# Altium footprint library wheelchair.PcbLib: 11 footprints
Each footprint in its own frame and in the unit in brackets; x right, y up, seen from the top. Pads: shape width x height; smd on the part's side, far side on the other; paste and mask are expansions set on the pad; w line width, h text height; cw(c..) or ccw(c..) is an arc to the next point about the centre after c.
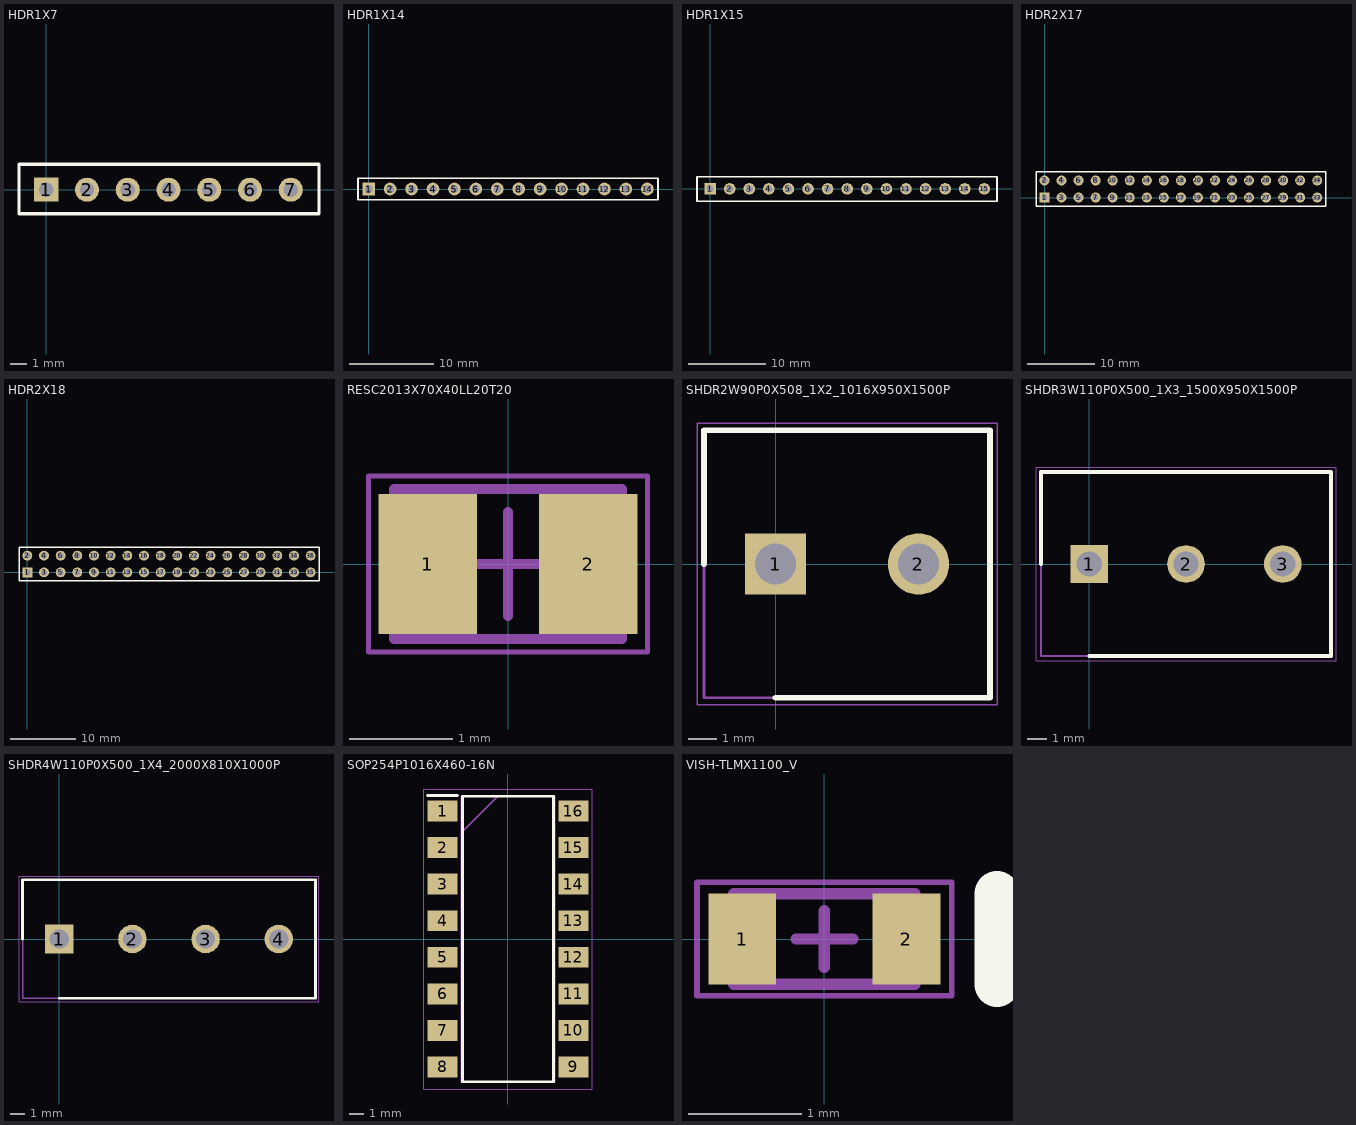
[diagram p0: the footprints below, top view; thin cyan lines are the x and y axes]

## HDR1X7 [mm]
pads (7):
  rect 1.5x1.5 hole 0.9: 1(0,0)
  round 1.5 hole 0.9: 2(2.54,0) 3(5.08,0) 4(7.62,0) 5(10.16,0) 6(12.7,0) 7(15.24,0)
Top Overlay:
  lines w0.2: -1.7,-1.5 -1.7,1.585 17,1.585 17,-1.5 -1.7,-1.5
3D body "female_header_a-bl254-eg-g07d.stp": height 8.51, standoff -3.19, extent -1.395,-1.2 16.635,1.3

## HDR1X14 [mm]
pads (14):
  rect 1.5x1.5 hole 0.9: 1(0,0)
  round 1.5 hole 0.9: 2(2.54,0) 3(5.08,0) 4(7.62,0) 5(10.16,0) 6(12.7,0) 7(15.24,0) 8(17.78,0) 9(20.32,0) 10(22.86,0) 11(25.4,0) 12(27.94,0) 13(30.48,0) 14(33.02,0)
Top Overlay:
  lines w0.2: -1.27,-1.27 34.29,-1.27 34.29,1.27 0.635,1.27 -1.27,1.27 -1.27,-1.27

## HDR1X15 [mm]
pads (15):
  rect 1.5x1.5 hole 0.9: 1(0,0)
  round 1.5 hole 0.9: 2(2.54,0) 3(5.08,0) 4(7.62,0) 5(10.16,0) 6(12.7,0) 7(15.24,0) 8(17.78,0) 9(20.32,0) 10(22.86,0) 11(25.4,0) 12(27.94,0) 13(30.48,0) 14(33.02,0) 15(35.56,0)
Top Overlay:
  lines w0.2: -1.7,-1.615 37.2,-1.615 37.2,1.585 -1.7,1.585 -1.7,-1.615

## HDR2X17 [mm]
pads (34):
  rect 1.5x1.5 hole 0.9: 1(0,0)
  round 1.5 hole 0.9: 2(0,2.54) 3(2.54,0) 4(2.54,2.54) 5(5.08,0) 6(5.08,2.54) 7(7.62,0) 8(7.62,2.54) 9(10.16,0) 10(10.16,2.54) 11(12.7,0) 12(12.7,2.54) 13(15.24,0) 14(15.24,2.54) 15(17.78,0) 16(17.78,2.54) 17(20.32,0) 18(20.32,2.54) 19(22.86,0) 20(22.86,2.54) 21(25.4,0) 22(25.4,2.54) 23(27.94,0) 24(27.94,2.54) 25(30.48,0) 26(30.48,2.54) 27(33.02,0) 28(33.02,2.54) 29(35.56,0) 30(35.56,2.54) 31(38.1,0) 32(38.1,2.54) 33(40.64,0) 34(40.64,2.54)
Top Overlay:
  lines w0.2: -1.27,-1.27 41.91,-1.27 41.91,3.81 -1.27,3.81 -1.27,-1.27

## HDR2X18 [mm]
pads (36):
  rect 1.5x1.5 hole 0.9: 1(0,0)
  round 1.5 hole 0.9: 2(0,2.54) 3(2.54,0) 4(2.54,2.54) 5(5.08,0) 6(5.08,2.54) 7(7.62,0) 8(7.62,2.54) 9(10.16,0) 10(10.16,2.54) 11(12.7,0) 12(12.7,2.54) 13(15.24,0) 14(15.24,2.54) 15(17.78,0) 16(17.78,2.54) 17(20.32,0) 18(20.32,2.54) 19(22.86,0) 20(22.86,2.54) 21(25.4,0) 22(25.4,2.54) 23(27.94,0) 24(27.94,2.54) 25(30.48,0) 26(30.48,2.54) 27(33.02,0) 28(33.02,2.54) 29(35.56,0) 30(35.56,2.54) 31(38.1,0) 32(38.1,2.54) 33(40.64,0) 34(40.64,2.54) 35(43.18,0) 36(43.18,2.54)
Top Overlay:
  lines w0.2: -1.27,-1.27 -1.27,3.81 44.45,3.81 44.45,-1.27 -1.27,-1.27

## RESC2013X70X40LL20T20 [mm]
pads (2):
  rect 0.95x1.35 smd: 1(-0.775,0) 2(0.775,0)
Mechanical 13:
  lines w0.1: -1.1,-0.725 -1.1,0.725 1.1,0.725 1.1,-0.725 -1.1,-0.725
Mechanical 15:
  lines w0.05: -1.35,-0.85 -1.35,0.85 1.35,0.85 1.35,-0.85 -1.35,-0.85
  lines w0.1: -0.5,0 0.5,0 ; 0,-0.5 0,0.5
3D body: height 0.7, standoff 0, extent -0.7,-0.725 0.7,0.725
3D body: height 0.7, standoff 0, extent -1.1,-0.725 -0.7,0.725
3D body: height 0.7, standoff 0, extent 0.7,-0.725 1.1,0.725

## SHDR2W90P0X508_1X2_1016X950X1500P [mm]
pads (2):
  rect 2.175x2.175 hole 1.45: 1(0,0)
  round 2.175 hole 1.45: 2(5.08,0)
Top Overlay:
  lines w0.2: -2.54,0 -2.54,4.75 7.62,4.75 7.62,-4.75 0,-4.75
Mechanical 13:
  lines w0.1: -2.54,-4.75 -2.54,4.75 7.62,4.75 7.62,-4.75 -2.54,-4.75
Mechanical 15:
  lines w0.05: -2.79,-5 -2.79,5 7.87,5 7.87,-5 -2.79,-5
3D body "1888687.stp": height 15, standoff -3.5, extent -3.099,-4.724 7.631,4.776

## SHDR3W110P0X500_1X3_1500X950X1500P [mm]
pads (3):
  rect 1.95x1.95 hole 1.3: 1(0,0)
  round 1.95 hole 1.3: 2(5,0) 3(10,0)
Top Overlay:
  lines w0.2: -2.5,0 -2.5,4.75 12.5,4.75 12.5,-4.75 0,-4.75
Mechanical 13:
  lines w0.1: -2.5,-4.75 12.5,-4.75 12.5,4.75 -2.5,4.75 -2.5,-4.75
Mechanical 15:
  lines w0.05: -2.75,-5 12.75,-5 12.75,5 -2.75,5 -2.75,-5
3D body "1890976.stp": height 15, standoff -3.5, extent -2.823,-4.769 12.747,4.731

## SHDR4W110P0X500_1X4_2000X810X1000P [mm]
pads (4):
  rect 1.95x1.95 hole 1.3: 1(0,0)
  round 1.95 hole 1.3: 2(5,0) 3(10,0) 4(15,0)
Top Overlay:
  lines w0.2: -2.5,0 -2.5,4.05 17.5,4.05 17.5,-4.05 0,-4.05
Mechanical 13:
  lines w0.1: -2.5,-4.05 -2.5,4.05 17.5,4.05 17.5,-4.05 -2.5,-4.05
Mechanical 15:
  lines w0.05: -2.75,-4.3 -2.75,4.3 17.75,4.3 17.75,-4.3 -2.75,-4.3
3D body "1729034.stp": height 10, standoff -3.5, extent -2.536,-4.021 18.034,4.129

## SOP254P1016X460-16N [mm]
pads (16):
  rect 2.1x1.45 smd: 1(-4.55,8.89) 2(-4.55,6.35) 3(-4.55,3.81) 4(-4.55,1.27) 5(-4.55,-1.27) 6(-4.55,-3.81) 7(-4.55,-6.35) 8(-4.55,-8.89) 9(4.55,-8.89) 10(4.55,-6.35) 11(4.55,-3.81) 12(4.55,-1.27) 13(4.55,1.27) 14(4.55,3.81) 15(4.55,6.35) 16(4.55,8.89)
Top Overlay:
  lines w0.2: -5.6,9.965 -3.5,9.965 ; -3.15,-9.92 3.15,-9.92 3.15,9.92 -3.15,9.92 -3.15,-9.92
Mechanical 13:
  lines w0.1: -3.25,7.38 -0.71,9.92 ; -3.25,-9.92 3.25,-9.92 3.25,9.92 -3.25,9.92 -3.25,-9.92
Mechanical 15:
  lines w0.05: -5.85,-10.42 5.85,-10.42 5.85,10.42 -5.85,10.42 -5.85,-10.42
3D body "ACPL-847-300E.stp": height 4.6, standoff 0, extent -5.08,-9.92 5.08,9.92

## VISH-TLMX1100_V [mm]
pads (2):
  rect 0.6x0.8 smd: 1(-0.725,0) 2(0.725,0)
Top Overlay:
  lines w0.4: 1.525,-0.4 1.525,0.4
Mechanical 13:
  lines w0.1: -0.8,-0.4 0.8,-0.4 0.8,0.4 -0.8,0.4 -0.8,-0.4
Mechanical 15:
  lines w0.05: -1.125,-0.5 -1.125,0.5 1.125,0.5 1.125,-0.5 -1.125,-0.5
  lines w0.1: -0.25,0 0.25,0 ; 0,-0.25 0,0.25
3D body: height 0.65, standoff 0, extent -0.8,-0.4 0.8,0.4